# EAGLE library part PIC32MX250F128D (library xess)
Microchip PIC32MX250F128D Microchip PIC32MX250F128D
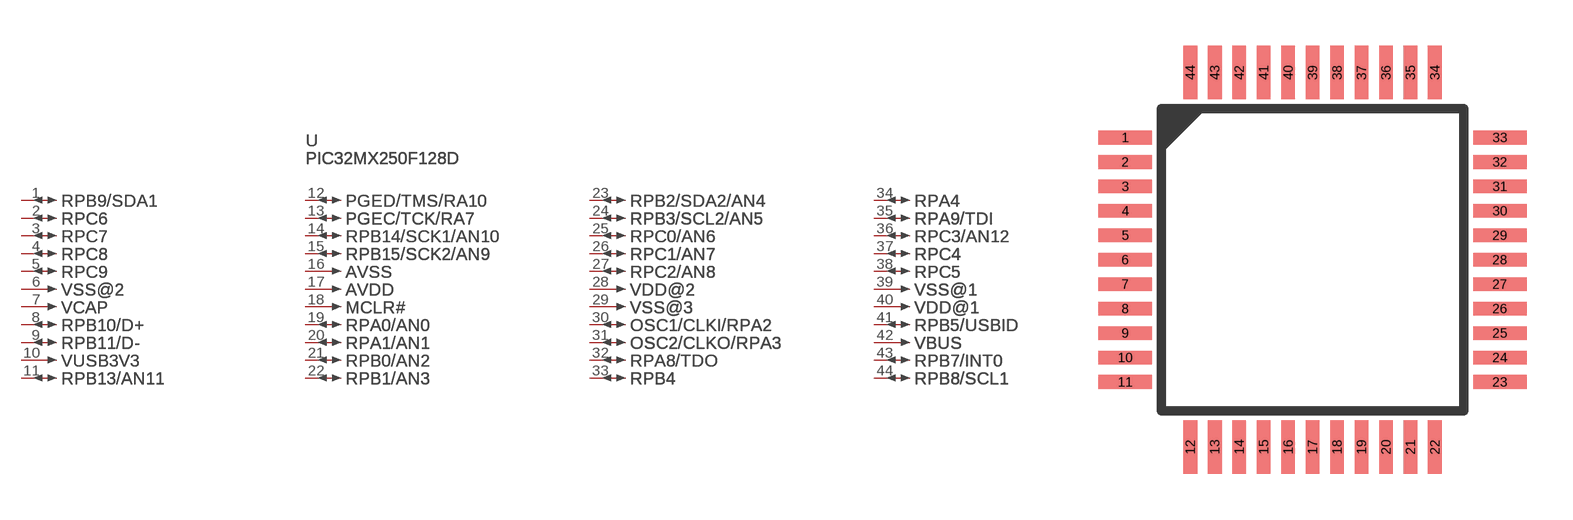
[diagram p154: symbol with the pads of MICROCHIP-44_PQFP; footprint MICROCHIP-44_PQFP]

Designator prefix U; gates PART=PV_GATE RPB9/SDA1=PIN_GATE_IO RPC6=PIN_GATE_IO RPC7=PIN_GATE_IO RPC8=PIN_GATE_IO RPC9=PIN_GATE_IO VSS@2=PIN_GATE_IN VCAP=PIN_GATE_IN RPB10/D+=PIN_GATE_IO RPB11/D-=PIN_GATE_IO VUSB3V3=PIN_GATE_IN RPB13/AN11=PIN_GATE_IO PGED/TMS/RA10=PIN_GATE_IO PGEC/TCK/RA7=PIN_GATE_IO RPB14/SCK1/AN10=PIN_GATE_IO RPB15/SCK2/AN9=PIN_GATE_IO AVSS=PIN_GATE_IN AVDD=PIN_GATE_IN MCLR#=PIN_GATE_IN RPA0/AN0=PIN_GATE_IO RPA1/AN1=PIN_GATE_IO RPB0/AN2=PIN_GATE_IO RPB1/AN3=PIN_GATE_IO RPB2/SDA2/AN4=PIN_GATE_IO RPB3/SCL2/AN5=PIN_GATE_IO RPC0/AN6=PIN_GATE_IO RPC1/AN7=PIN_GATE_IO RPC2/AN8=PIN_GATE_IO VDD@2=PIN_GATE_IN VSS@3=PIN_GATE_IN OSC1/CLKI/RPA2=PIN_GATE_IO OSC2/CLKO/RPA3=PIN_GATE_IO RPA8/TDO=PIN_GATE_IO RPB4=PIN_GATE_IO RPA4=PIN_GATE_IO RPA9/TDI=PIN_GATE_IO RPC3/AN12=PIN_GATE_IO RPC4=PIN_GATE_IO RPC5=PIN_GATE_IO VSS@1=PIN_GATE_IN VDD@1=PIN_GATE_IN RPB5/USBID=PIN_GATE_IO VBUS=PIN_GATE_IN RPB7/INT0=PIN_GATE_IO RPB8/SCL1=PIN_GATE_IO

## PIC32MX250F128DPQFP44  [MICROCHIP-44_PQFP]
1  RPB9/SDA1:1
2  RPC6:1
3  RPC7:1
4  RPC8:1
5  RPC9:1
6  VSS@2:1  in
7  VCAP:1  in
8  RPB10/D+:1
9  RPB11/D-:1
10  VUSB3V3:1  in
11  RPB13/AN11:1
12  PGED/TMS/RA10:1
13  PGEC/TCK/RA7:1
14  RPB14/SCK1/AN10:1
15  RPB15/SCK2/AN9:1
16  AVSS:1  in
17  AVDD:1  in
18  MCLR#:1  in
19  RPA0/AN0:1
20  RPA1/AN1:1
21  RPB0/AN2:1
22  RPB1/AN3:1
23  RPB2/SDA2/AN4:1
24  RPB3/SCL2/AN5:1
25  RPC0/AN6:1
26  RPC1/AN7:1
27  RPC2/AN8:1
28  VDD@2:1  in
29  VSS@3:1  in
30  OSC1/CLKI/RPA2:1
31  OSC2/CLKO/RPA3:1
32  RPA8/TDO:1
33  RPB4:1
34  RPA4:1
35  RPA9/TDI:1
36  RPC3/AN12:1
37  RPC4:1
38  RPC5:1
39  VSS@1:1  in
40  VDD@1:1  in
41  RPB5/USBID:1
42  VBUS:1  in
43  RPB7/INT0:1
44  RPB8/SCL1:1

## Footprint MICROCHIP-44_PQFP (pad centres in mm)
Microchip 44-lead plastic flat pack
smd 1.75 x 0.45: 1 -0.5,0; 2 -0.5,-0.8; 3 -0.5,-1.6; 4 -0.5,-2.4; 5 -0.5,-3.2; 6 -0.5,-4; 7 -0.5,-4.8; 8 -0.5,-5.6; 9 -0.5,-6.4; 10 -0.5,-7.2; 11 -0.5,-8; 23 11.75,-8; 24 11.75,-7.2; 25 11.75,-6.4; 26 11.75,-5.6; 27 11.75,-4.8; 28 11.75,-4; 29 11.75,-3.2; 30 11.75,-2.4; 31 11.75,-1.6; 32 11.75,-0.8; 33 11.75,0
smd 0.45 x 1.75: 12 1.625,-10.125; 13 2.425,-10.125; 14 3.225,-10.125; 15 4.025,-10.125; 16 4.825,-10.125; 17 5.625,-10.125; 18 6.425,-10.125; 19 7.225,-10.125; 20 8.025,-10.125; 21 8.825,-10.125; 22 9.625,-10.125; 34 9.625,2.125; 35 8.825,2.125; 36 8.025,2.125; 37 7.225,2.125; 38 6.425,2.125; 39 5.625,2.125; 40 4.825,2.125; 41 4.025,2.125; 42 3.225,2.125; 43 2.425,2.125; 44 1.625,2.125